# Altium schematic symbol library Schlib1.SchLib: 8 symbols
Pins are listed as number, name and electrical type; pins without a type are passive.

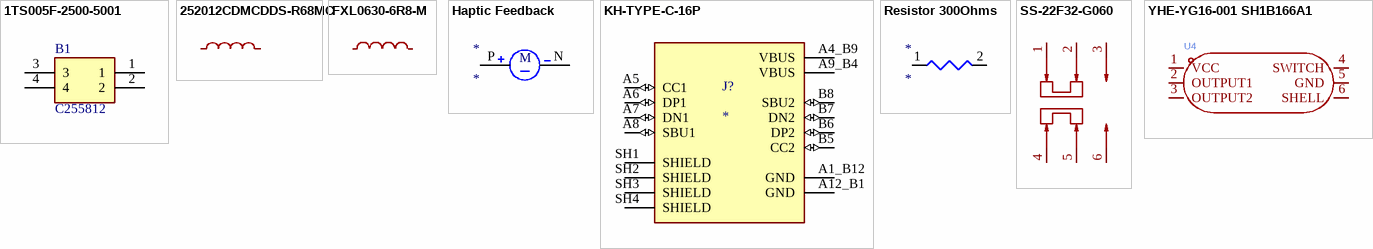
[diagram p0: symbols 1TS005F-2500-5001 to YHE-YG16-001 SH1B166A1]

## 1TS005F-2500-5001
designator B1, comment C255812
Switch; Manufacturer_Name: HYP (Hongyuan Precision); Manufacturer_Part_Number: 1TS005F-2500-5001; Datasheet Link: https://datasheet.lcsc.com/szlcsc/HYP-1TS005F-2500-5001_C255812.pdf; Height: 5.1mm
footprint Button
footprint Button
pins: 1, 2, 3, 4

## 252012CDMCDDS-R68MC
designator L?, comment 680nH  (value not drawn)
Manufacturer: Sumida(胜美达); Symbol: 252012CDMCDDS-R68MC; Add into BOM: yes; Tolerance: ±20%; Current - Saturation(Isat): 6.3A; DC Resistance(DCR): 30mΩ; Type: Molded Inductor; Device: 252012CDMCDDS-R68MC; LCSC Part Name: 680nH ±20% 6.3A; Supplier Part: C492726; Manufacturer Part: 252012CDMCDDS-R68MC; Supplier Footprint: 1008; JLCPCB Part Class: Extended Part; Datasheet: https://item.szlcsc.com/datasheet/252012CDMCDDS-R68MC/503355.html; Supplier: LCSC; Convert to PCB: yes; Value: 680nH; Current Rating: -; Ratings: -
footprint IND-SMD_L2.5-W2.0
pins: 1, 2

## FXL0630-6R8-M
designator L?, comment 6.8uH  (value not drawn)
Manufacturer: cjiang(长江微电); Symbol: FXL0630-6R8-M; Add into BOM: yes; Tolerance: ±20%; Current Rating: 5A; Current - Saturation(Isat): 6A; DC Resistance(DCR): 48mΩ; Type: Molded Inductor; Device: FXL0630-6R8-M; LCSC Part Name: 6.8uH ±20% 6A; Supplier Part: C167221; Manufacturer Part: FXL0630-6R8-M; Supplier Footprint: SMD,7x6.6mm; JLCPCB Part Class: Extended Part; Datasheet: https://item.szlcsc.com/datasheet/FXL0630-6R8-M/178604.html; Supplier: LCSC; Convert to PCB: yes; Value: 6.8uH
footprint IND-SMD_L7.0-W6.6
pins: 1, 2

## Haptic Feedback
designator *
footprint Haptic Feedback
pins: N NEG, P POS
text: M

## KH-TYPE-C-16P
designator J?
MF: kinghelm; MP: KH-TYPE-C-16P; SnapEDA_Link: https://www.snapeda.com/parts/KH-TYPE-C-16P/Kinghelm/view-part/?ref=snap; Package: None; Value: *; Check_prices: https://www.snapeda.com/parts/KH-TYPE-C-16P/Kinghelm/view-part/?ref=eda
footprint KINGHELM_KH-TYPE-C-16P
pins: A1_B12 GND (power), A4_B9 VBUS (power), A5 CC1 (io), A6 DP1 (io), A7 DN1 (io), A8 SBU1 (io), A9_B4 VBUS (power), A12_B1 GND (power), B5 CC2 (io), B6 DP2 (io), B7 DN2 (io), B8 SBU2 (io), SH1 SHIELD, SH2 SHIELD, SH3 SHIELD, SH4 SHIELD

## Resistor 300Ohms
designator *
footprint Resistor 300Ohms
pins: 1, 2

## SS-22F32-G060
designator SW?  (value not drawn)
Manufacturer: G-Switch(品赞); Add into BOM: yes; Circuit: DPDT; Actuator Style: Rectangular Columnar; Switch Height: 13mm; Actuator Color: Black; Current Rating: 1A; Voltage Rating: 24V; Life: 10,000 Cycles; Symbol: SS-22F32-G060; Device: SS-22F32-G060; LCSC Part Name: 柄长6mm 直插两档 滑动开关; Supplier Part: C2848931; Manufacturer Part: SS-22F32-G060; Supplier Footprint: 插件,23.2x7.5mm; JLCPCB Part Class: Extended Part; Datasheet: https://item.szlcsc.com/datasheet/SS-22F32-G060/3048280.html; Supplier: LCSC; Convert to PCB: yes; Termination Style: PC Pin; Length: 23.2mm; Width: 7.5mm; Mounting Type: Through Hole; Operating Temperature: -25℃~+70℃
footprint PCBComponent_1 - duplicate
pins: 1, 2, 3, 4, 5, 6

## YHE-YG16-001 SH1B166A1
designator U4, comment C42411044  (value not drawn)
Manufacturer: YTL(亚特联); Symbol: YHE-YG16-001 SH1B166A1; Add into BOM: yes; Device: YHE-YG16-001 SH1B166A1; LCSC Part Name: YHE-YG16-001 SH1B166A1; Supplier Part: C42411044; Manufacturer Part: YHE-YG16-001 SH1B166A1; Supplier Footprint: 插件; Datasheet: https://atta.szlcsc.com/upload/public/pdf/source/20241210/EC2F2FFC22DA7A673EF560687C693A55.pdf; Supplier: LCSC; Convert to PCB: yes
footprint SW-TH_YHE-YG16-001-SH1B166A1
3D model SW-TH_YHE-YG16-001-SH1B166A1
footprint Correct Joystick
pins: 1 VCC, 2 OUTPUT1, 3 OUTPUT2, 4 SWITCH, 5 GND, 6 SHELL